# Altium footprint library PCB - CONNECTOR - MOLEX - MOLEX 0346910200.PcbLib: 1 footprints
Each footprint in its own frame and in the unit in brackets; x right, y up, seen from the top. Pads: shape width x height; smd on the part's side, far side on the other; paste and mask are expansions set on the pad; w line width, h text height; cw(c..) or ccw(c..) is an arc to the next point about the centre after c.
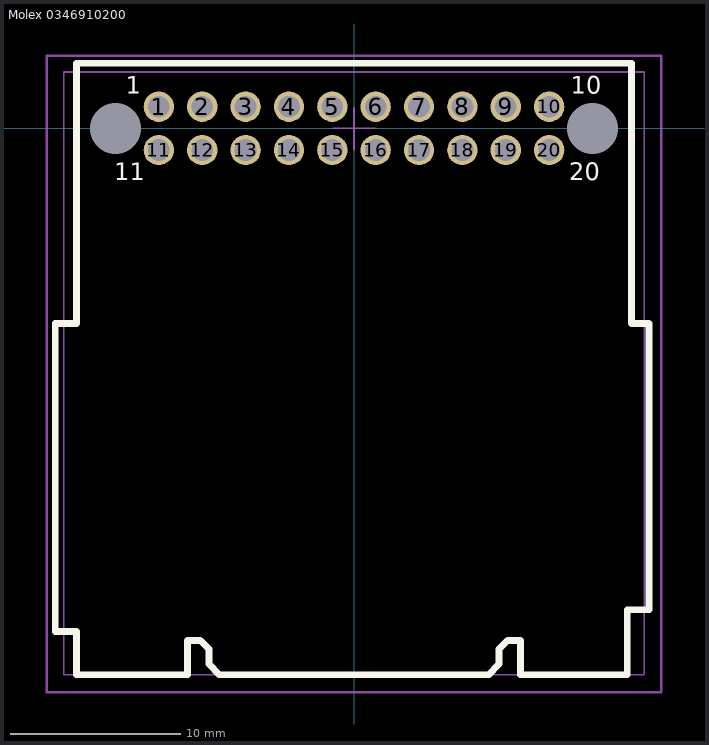
[diagram p0: the footprint, top view; thin cyan lines are the x and y axes]

## Molex 0346910200 [mil]
height 868.11
pads (22):
  round 70 hole 50 mask+3.94: 1(-450,50) 2(-350,50) 3(-250,50) 4(-150,50) 5(-50,50) 6(50,50) 7(150,50) 8(250,50) 9(350,50) 10(450,50) 11(-450,-50) 12(-350,-50) 13(-250,-50) 14(-150,-50) 15(-50,-50) 16(50,-50) 17(150,-50) 18(250,-50) 19(350,-50) 20(450,-50)
  round 0 hole 118.11 unplated mask+7.87: HOLE(-550,0) HOLE(550,0)
Top Overlay:
  lines w15.75: -688.98,-1160 -688.98,-450 -640,-450 -640,150 640,150 640,-450 680,-450 680,-1110 630,-1110 630,-1260 383.86,-1260 383.86,-1181.1 354.33,-1181.1 334.65,-1200.79 334.65,-1235.35 310,-1260 -310,-1260 -334.65,-1235.35 -334.65,-1200.79 -354.33,-1181.1 -383.86,-1181.1 -383.86,-1260 -639.76,-1260 -639.76,-1160 -688.98,-1160
  text "20" at 496.68,-119.99 h40
  text "10" at 500.01,80.01 h40
  text "11" at -553.33,-119.99 h40
  text "1" at -526.66,80.01 h40
Mechanical 13:
  lines w3.94: -669.29,-1260 -669.29,130 669.29,130 669.29,-1260 -669.29,-1260
Mechanical 15 (Mech15):
  lines w3.94: -49.21,0 0,0 ; 0,-49.21 0,0 ; 0,47.24 0,0 ; 49.21,0 0,0
  lines w5.91: -708.66,-1300 -708.66,167.32 708.66,167.32 708.66,-1300 -708.66,-1300
3D body "Molex - 346910200.stp": height 892.3, standoff -114.02, extent -672.24,-1255.45 670.27,128.94